# Altium footprint library CHIP_SMD.PcbLib: 4 footprints
Each footprint in its own frame and in the unit in brackets; x right, y up, seen from the top. Pads: shape width x height; smd on the part's side, far side on the other; paste and mask are expansions set on the pad; w line width, h text height; cw(c..) or ccw(c..) is an arc to the next point about the centre after c.
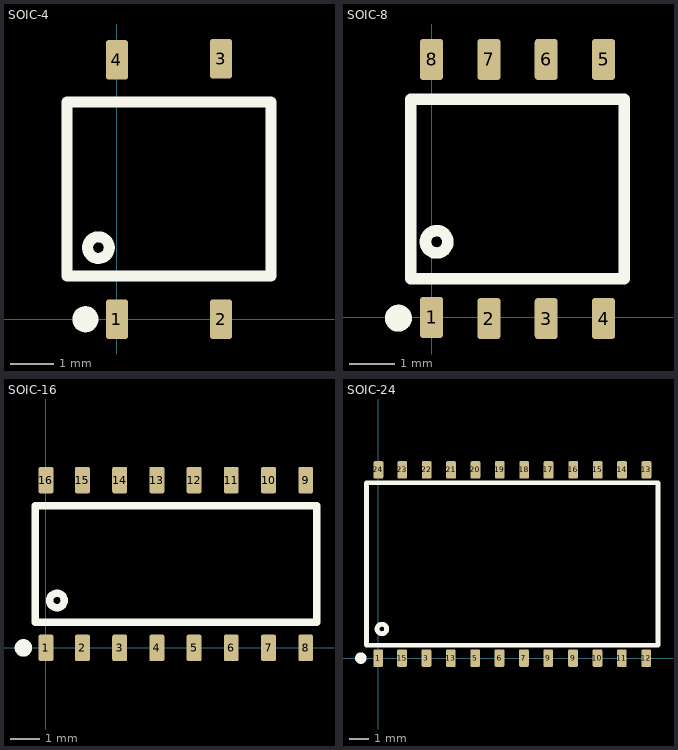
[diagram p0: the footprints below, top view; thin cyan lines are the x and y axes]

## SOIC-4 [mm]
pads (4):
  rrect25% 0.51x0.91 smd paste-0.017 mask+0.05: 1(0,0) 2(2.4,0) 3(2.4,6) 4(0,5.975)
Top Overlay:
  circle w0.3: c-0.725,0 r0.15
  circle w0.254: c-0.425,1.65 r0.25
  lines w0.254: -1.15,1 3.55,1 3.55,5 -1.15,5 -1.15,1
3D body "User Library-SOP254P665X290.step": height 2.95, standoff 0.05, extent -1.275,-0.318 3.675,6.368

## SOIC-8 [mm]
pads (8):
  rrect25% 0.51x0.91 smd paste-0.017 mask+0.05: 1(0,0) 2(1.275,-0.025) 3(2.55,-0.025) 4(3.825,-0.025) 5(3.825,5.74) 6(2.55,5.74) 7(1.275,5.74) 8(0,5.74)
Top Overlay:
  circle w0.254: c0.113,1.683 r0.25
  circle w0.3: c-0.737,-0.018 r0.15
  lines w0.254: -0.462,0.857 4.287,0.857 4.287,4.858 -0.462,4.858 -0.462,0.857
3D body "User Library-SOIC8_JEDEC_MS-012AA.step": height 1.8, standoff 0.04, extent -0.587,-0.242 4.413,5.957

## SOIC-16 [mm]
pads (16):
  rrect25% 0.51x0.91 smd paste-0.017 mask+0.05: 1(0,0) 2(1.25,0) 3(2.525,0) 4(3.8,0) 5(5.075,0) 6(6.35,0) 7(7.625,0) 8(8.9,0) 9(8.9,5.75) 10(7.625,5.75) 11(6.35,5.75) 12(5.075,5.75) 13(3.8,5.75) 14(2.525,5.75) 15(1.25,5.75) 16(0,5.75)
Top Overlay:
  circle w0.3: c-0.775,0 r0.15
  circle w0.254: c0.375,1.625 r0.25
  lines w0.254: -0.375,0.875 -0.375,4.875 9.275,4.875 9.275,0.875 -0.375,0.875
3D body "User Library-SOIC-16-1.step": height 1.45, standoff 0.05, extent -0.5,-0.125 9.4,5.875

## SOIC-24 [mm]
pads (24):
  rrect25% 0.51x0.91 smd paste-0.017 mask+0.05: 1(0,0) 3(2.525,0) 5(5.075,0) 6(6.35,0) 7(7.625,0) 9(8.9,0) 9(10.2,0) 10(11.475,0) 11(12.75,0) 12(14.025,0) 13(3.8,0) 13(14.038,9.85) 14(12.763,9.85) 15(1.25,0) 15(11.488,9.85) 16(10.212,9.85) 17(8.913,9.85) 18(7.638,9.85) 19(6.363,9.85) 20(5.088,9.85) 21(3.813,9.85) 22(2.538,9.85) 23(1.263,9.85) 24(0.013,9.85)
Top Overlay:
  circle w0.3: c-0.906,0 r0.15
  circle w0.254: c0.194,1.525 r0.25
  lines w0.254: -0.606,0.675 14.644,0.675 14.644,9.175 -0.606,9.175 -0.606,0.675
3D body "User Library-SOIC24-300.step": height 2.65, standoff 0, extent -0.731,-0.225 14.769,10.075